# Altium footprint library PcbLib1.PcbLib: 12 footprints
Each footprint in its own frame and in the unit in brackets; x right, y up, seen from the top. Pads: shape width x height; smd on the part's side, far side on the other; paste and mask are expansions set on the pad; w line width, h text height; cw(c..) or ccw(c..) is an arc to the next point about the centre after c.
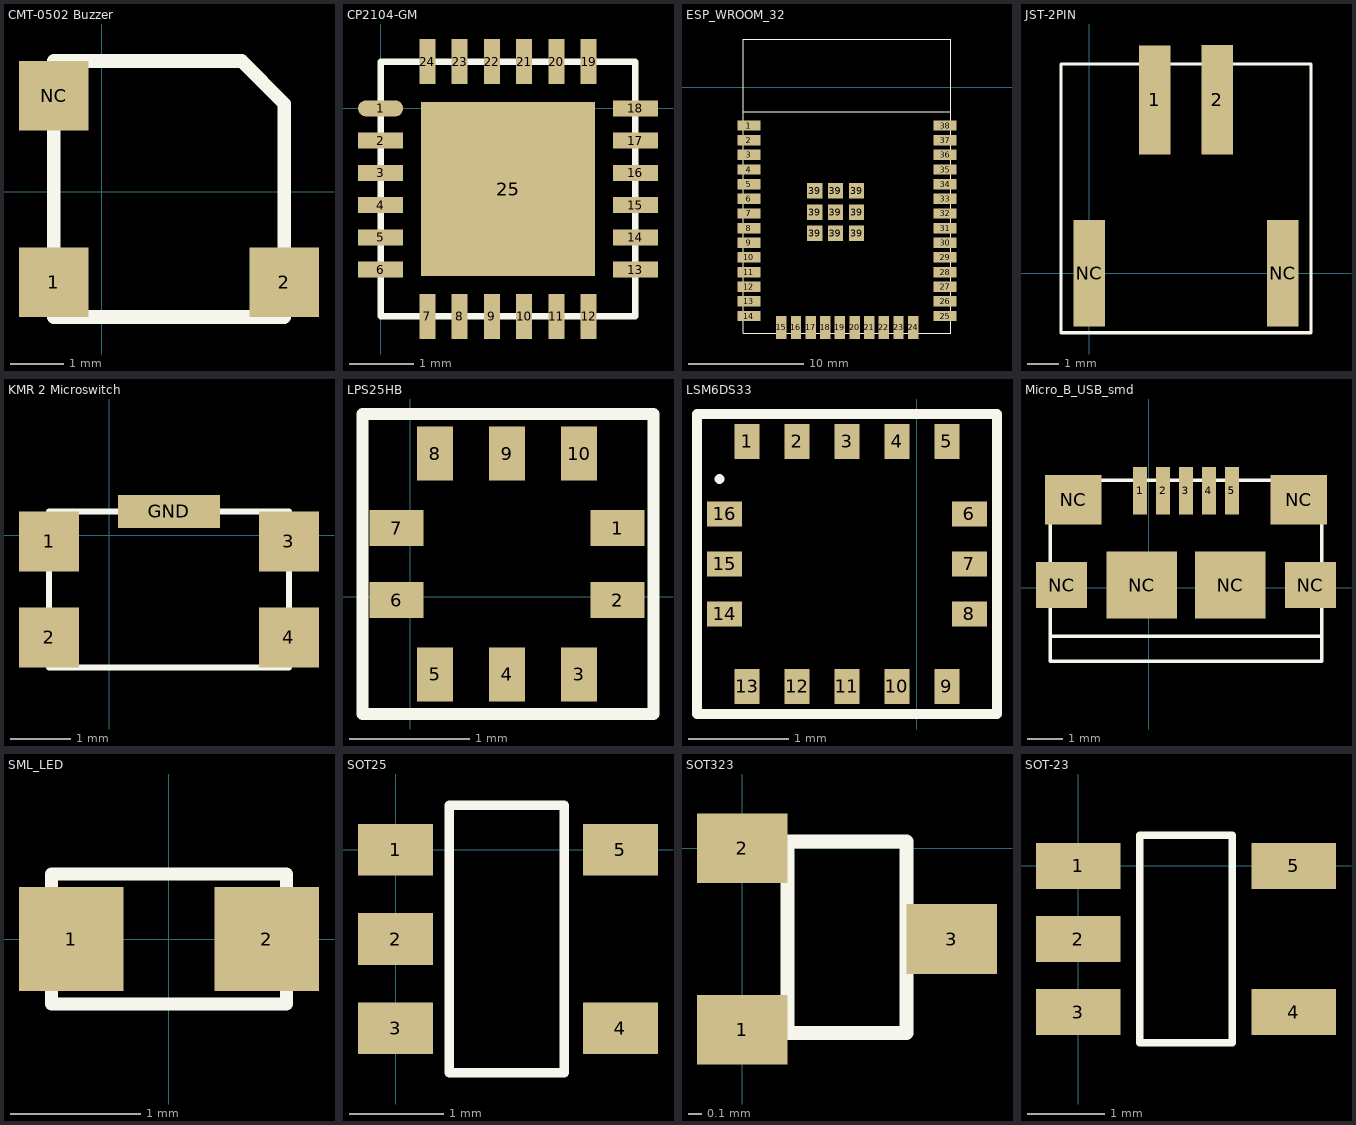
[diagram p0: the footprints below, top view; thin cyan lines are the x and y axes]

## CMT-0502 Buzzer [mm]
pads (3):
  rect 1.3x1.3 smd: 1(-0.9,-1.7) 2(3.425,-1.7) NC(-0.9,1.8)
Top Overlay:
  lines w0.254: -0.9,-2.35 3.425,-2.35 3.425,1.65 2.625,2.45 2.1,2.45 -0.9,2.45 -0.9,-2.35

## CP2104-GM [mm]
pads (25):
  oval 0.7x0.25 smd: 1(0,0)
  rect 0.7x0.25 smd: 2(0,-0.5) 3(0,-1) 4(0,-1.5) 5(0,-2) 6(0,-2.5) 13(3.95,-2.5) 14(3.95,-2) 15(3.95,-1.5) 16(3.95,-1) 17(3.95,-0.5) 18(3.95,0)
  rect 0.25x0.7 smd: 7(0.725,-3.225) 8(1.225,-3.225) 9(1.725,-3.225) 10(2.225,-3.225) 11(2.725,-3.225) 12(3.225,-3.225) 19(3.225,0.725) 20(2.725,0.725) 21(2.225,0.725) 22(1.725,0.725) 23(1.225,0.725) 24(0.725,0.725)
  rect 2.7x2.7 smd: 25(1.975,-1.25)
Top Overlay:
  lines w0.1: 0,-3.225 0,-2.625 0,0.125 0,0.725 3.35,0.725 3.95,0.725 3.95,0.125 3.95,-2.625 3.95,-3.225 3.35,-3.225 0.6,-3.225 0,-3.225

## ESP_WROOM_32 [mm]
pads (47):
  rect 2x0.9 smd: 1(21.7,-3.3) 2(21.7,-4.57) 3(21.7,-5.84) 4(21.7,-7.11) 5(21.7,-8.38) 6(21.7,-9.65) 7(21.7,-10.92) 8(21.7,-12.19) 9(21.7,-13.46) 10(21.7,-14.73) 11(21.7,-16) 12(21.7,-17.27) 13(21.7,-18.54) 14(21.7,-19.81) 25(38.7,-19.81) 26(38.7,-18.54) 27(38.7,-17.27) 28(38.7,-16) 29(38.7,-14.73) 30(38.7,-13.46) 31(38.7,-12.19) 32(38.7,-10.92) 33(38.7,-9.65) 34(38.7,-8.38) 35(38.7,-7.11) 36(38.7,-5.84) 37(38.7,-4.57) 38(38.7,-3.3)
  rect 0.9x2 smd: 15(24.505,-20.8) 16(25.775,-20.8) 17(27.045,-20.8) 18(28.315,-20.8) 19(29.585,-20.8) 20(30.855,-20.8) 21(32.125,-20.8) 22(33.395,-20.8) 23(34.665,-20.8) 24(35.935,-20.8)
  rect 1.33x1.33 smd: 39(27.4,-12.638) 39(27.4,-10.8) 39(27.4,-8.963) 39(29.2,-12.637) 39(29.2,-10.8) 39(29.2,-8.962) 39(31.025,-12.637) 39(31.025,-10.8) 39(31.025,-8.962)
Top Overlay:
  lines w0.1: 21.2,-2.1 21.2,-21.3 39.2,-21.3 39.2,-2.1 ; 21.2,-2.1 21.2,4.2 39.2,4.2 39.2,-2.1 ; 21.2,-2.1 39.2,-2.1

## JST-2PIN [mm]
pads (4):
  rect 1x3.5 smd: 1(2.1,5.55) 2(4.1,5.55)
  rect 1x3.4 smd: NC(0,0) NC(6.2,0)
Top Overlay:
  lines w0.1: -0.9,-1.9 -0.9,6.7 7.1,6.7 7.1,-1.9 -0.9,-1.9

## KMR 2 Microswitch [mm]
pads (5):
  rect 1x1 smd: 1(-1,-0.1) 2(-1,-1.7) 3(3,-0.1) 4(3,-1.7)
  rect 1.7x0.55 smd: GND(1,0.4)
Top Overlay:
  lines w0.1: -1,-2.2 3,-2.2 3,0.4 -1,0.4 -1,-2.2

## LPS25HB [mm]
pads (10):
  rect 0.45x0.3 smd: 1(1.725,0.575) 2(1.725,-0.025) 6(-0.115,-0.025) 7(-0.115,0.575)
  rect 0.3x0.45 smd: 3(1.405,-0.645) 4(0.805,-0.645) 5(0.205,-0.645) 8(0.205,1.195) 9(0.805,1.195) 10(1.405,1.195)
Top Overlay:
  lines w0.1: -0.4,-0.975 2.025,-0.975 2.025,1.525 -0.4,1.525 -0.4,-0.975

## LSM6DS33 [mm]
pads (16):
  rect 0.25x0.35 smd: 1(-1.7,-0.775) 2(-1.2,-0.775) 3(-0.7,-0.775) 4(-0.2,-0.775) 5(0.3,-0.775) 9(0.3,-3.225) 10(-0.2,-3.225) 11(-0.7,-3.225) 12(-1.2,-3.225) 13(-1.7,-3.225)
  rect 0.35x0.25 smd: 6(0.525,-1.5) 7(0.525,-2) 8(0.525,-2.5) 14(-1.925,-2.5) 15(-1.925,-2) 16(-1.925,-1.5)
Top Overlay:
  lines w0.1: -2.2,-3.5 -2.2,-0.5 0.8,-0.5 0.8,-3.5 -2.2,-3.5 ; -1.975,-1.15 -1.975,-1.15

## Micro_B_USB_smd [mm]
pads (11):
  rect 0.4x1.35 smd: 1(-0.25,2.75) 2(0.4,2.75) 3(1.05,2.75) 4(1.7,2.75) 5(2.35,2.75)
  rect 1.45x1.3 smd: NC(-2.475,0.075) NC(4.575,0.075)
  rect 1.6x1.4 smd: NC(-2.15,2.5) NC(4.25,2.5)
  rect 2x1.9 smd: NC(-0.2,0.075) NC(2.3,0.075)
Top Overlay:
  lines w0.1: -2.8,-1.375 -2.8,-2.075 4.9,-2.075 4.9,-1.375 ; -2.8,-1.375 -0.875,-1.375 2.975,-1.375 4.9,-1.375 ; -2.8,-1.375 -2.8,3.05 4.9,3.05 4.9,-1.375

## SML_LED [mm]
pads (2):
  rect 0.8x0.8 smd: 1(-0.75,0) 2(0.75,0)
Top Overlay:
  lines w0.1: -0.9,-0.5 0.9,-0.5 0.9,0.5 -0.9,0.5 -0.9,-0.5

## SOT25 [mm]
pads (5):
  rect 0.8x0.55 smd: 1(0,0) 2(0,-0.95) 3(0,-1.9) 4(2.4,-1.9) 5(2.4,0)
Top Overlay:
  lines w0.1: 0.575,-2.375 0.575,0.475 1.438,0.475 1.8,0.475 1.8,-2.375 0.575,-2.375

## SOT323 [mm]
pads (3):
  rect 0.65x0.5 smd: 1(0,-1.3) 2(0,0) 3(1.5,-0.65)
Top Overlay:
  lines w0.1: 0.587,0.05 1.175,0.05 1.175,-1.325 0.325,-1.325 0.325,0.05 0.912,0.05

## SOT-23 [mm]
pads (5):
  rect 1.1x0.6 smd: 1(0,0) 2(0,-0.95) 3(0,-1.9) 4(2.8,-1.9) 5(2.8,0)
Top Overlay:
  lines w0.1: 0.8,-2.3 0.8,0.4 2,0.4 2,-2.3 0.8,-2.3